# Altium schematic symbol library Transistors.SchLib: 7 symbols
Pins are listed as number, name and electrical type; pins without a type are passive.

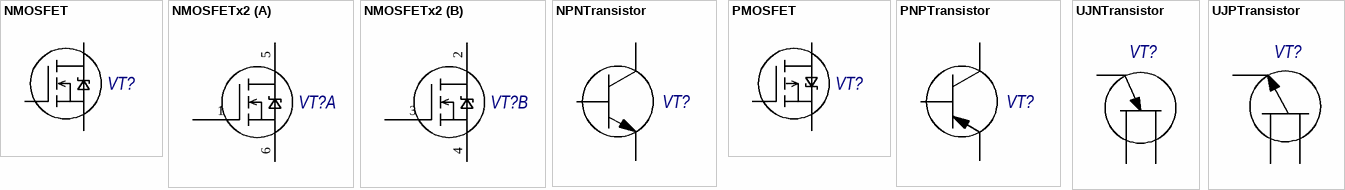
[diagram p0: symbols NMOSFET to UJPTransistor]

## NMOSFET
designator VT?
pins: 1 G, 2 S, 3 D

## NMOSFETx2
designator VT?
part A pins: 1 G, 5 D, 6 S
part B pins: 2 D, 3 G, 4 S

## NPNTransistor
designator VT?
pins: 1, 2, 3

## PMOSFET
designator VT?
pins: 1 G, 2 S, 3 D

## PNPTransistor
designator VT?
pins: 1, 2, 3

## UJNTransistor
designator VT?
pins: ?1, ?2, ?3

## UJPTransistor
designator VT?
pins: ?1, ?2, ?3